# EAGLE library part USB-C-16 (library added_parts)
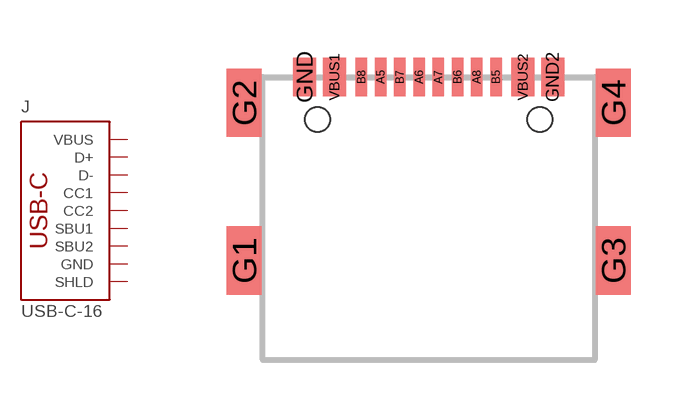
[diagram p7: symbol with the pads of USB-C-16; footprint USB-C-16]

Designator prefix J

## USB-C-16  [USB-C-16]
A5  CC1
A6  D+
A7  D-
A8  SBU1
B5  CC2
B6  D+
B7  D-
B8  SBU2
G1  SHLD  pas
G2  SHLD  pas
G3  SHLD  pas
G4  SHLD  pas
GND  GND  pas
GND2  GND  pas
VBUS1  VBUS  pas
VBUS2  VBUS  pas

## Footprint USB-C-16 (pad centres in mm)
smd 0.3 x 1: A5 -1.25,3.47; A6 -0.25,3.47; A7 0.25,3.47; A8 1.25,3.47; B5 1.75,3.47; B6 0.75,3.47; B7 -0.75,3.47; B8 -1.75,3.47
smd 0.914 x 1.778: G1 -4.8,-1.3; G2 -4.8,2.8; G3 4.8,-1.3; G4 4.8,2.8
smd 0.6 x 1: GND -3.225,3.47; GND2 3.225,3.47; VBUS1 -2.45,3.47; VBUS2 2.45,3.47
hole 0.65 at -2.89,2.365
hole 0.65 at 2.89,2.365